# Altium footprint library IN4007.PcbLib: 1 footprints
Each footprint in its own frame and in the unit in brackets; x right, y up, seen from the top. Pads: shape width x height; smd on the part's side, far side on the other; paste and mask are expansions set on the pad; w line width, h text height; cw(c..) or ccw(c..) is an arc to the next point about the centre after c.
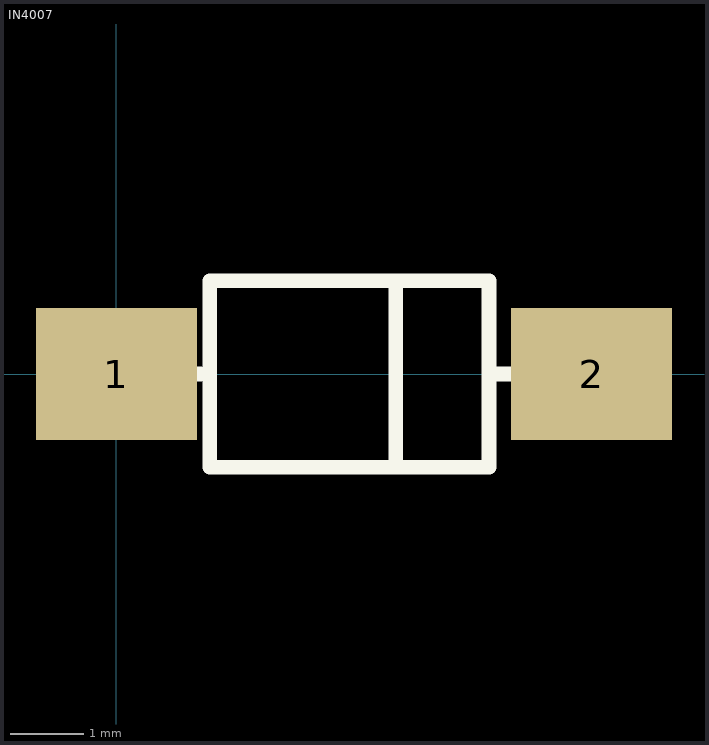
[diagram p0: the footprint, top view; thin cyan lines are the x and y axes]

## IN4007 [mm]
pads (2):
  rect 2.2x1.8 smd: 1(0,0) 2(6.477,0)
Top Overlay:
  lines w0.2: 0.381,0 1.143,0 ; 3.81,-1.27 3.81,1.27 ; 5.207,0 5.969,0 ; 1.27,-1.27 5.08,-1.27 5.08,1.27 1.27,1.27 1.27,0.762 1.27,-1.27